# Altium integrated library National Semiconductor DAC.IntLib: 141 symbols (part 4 of 4)
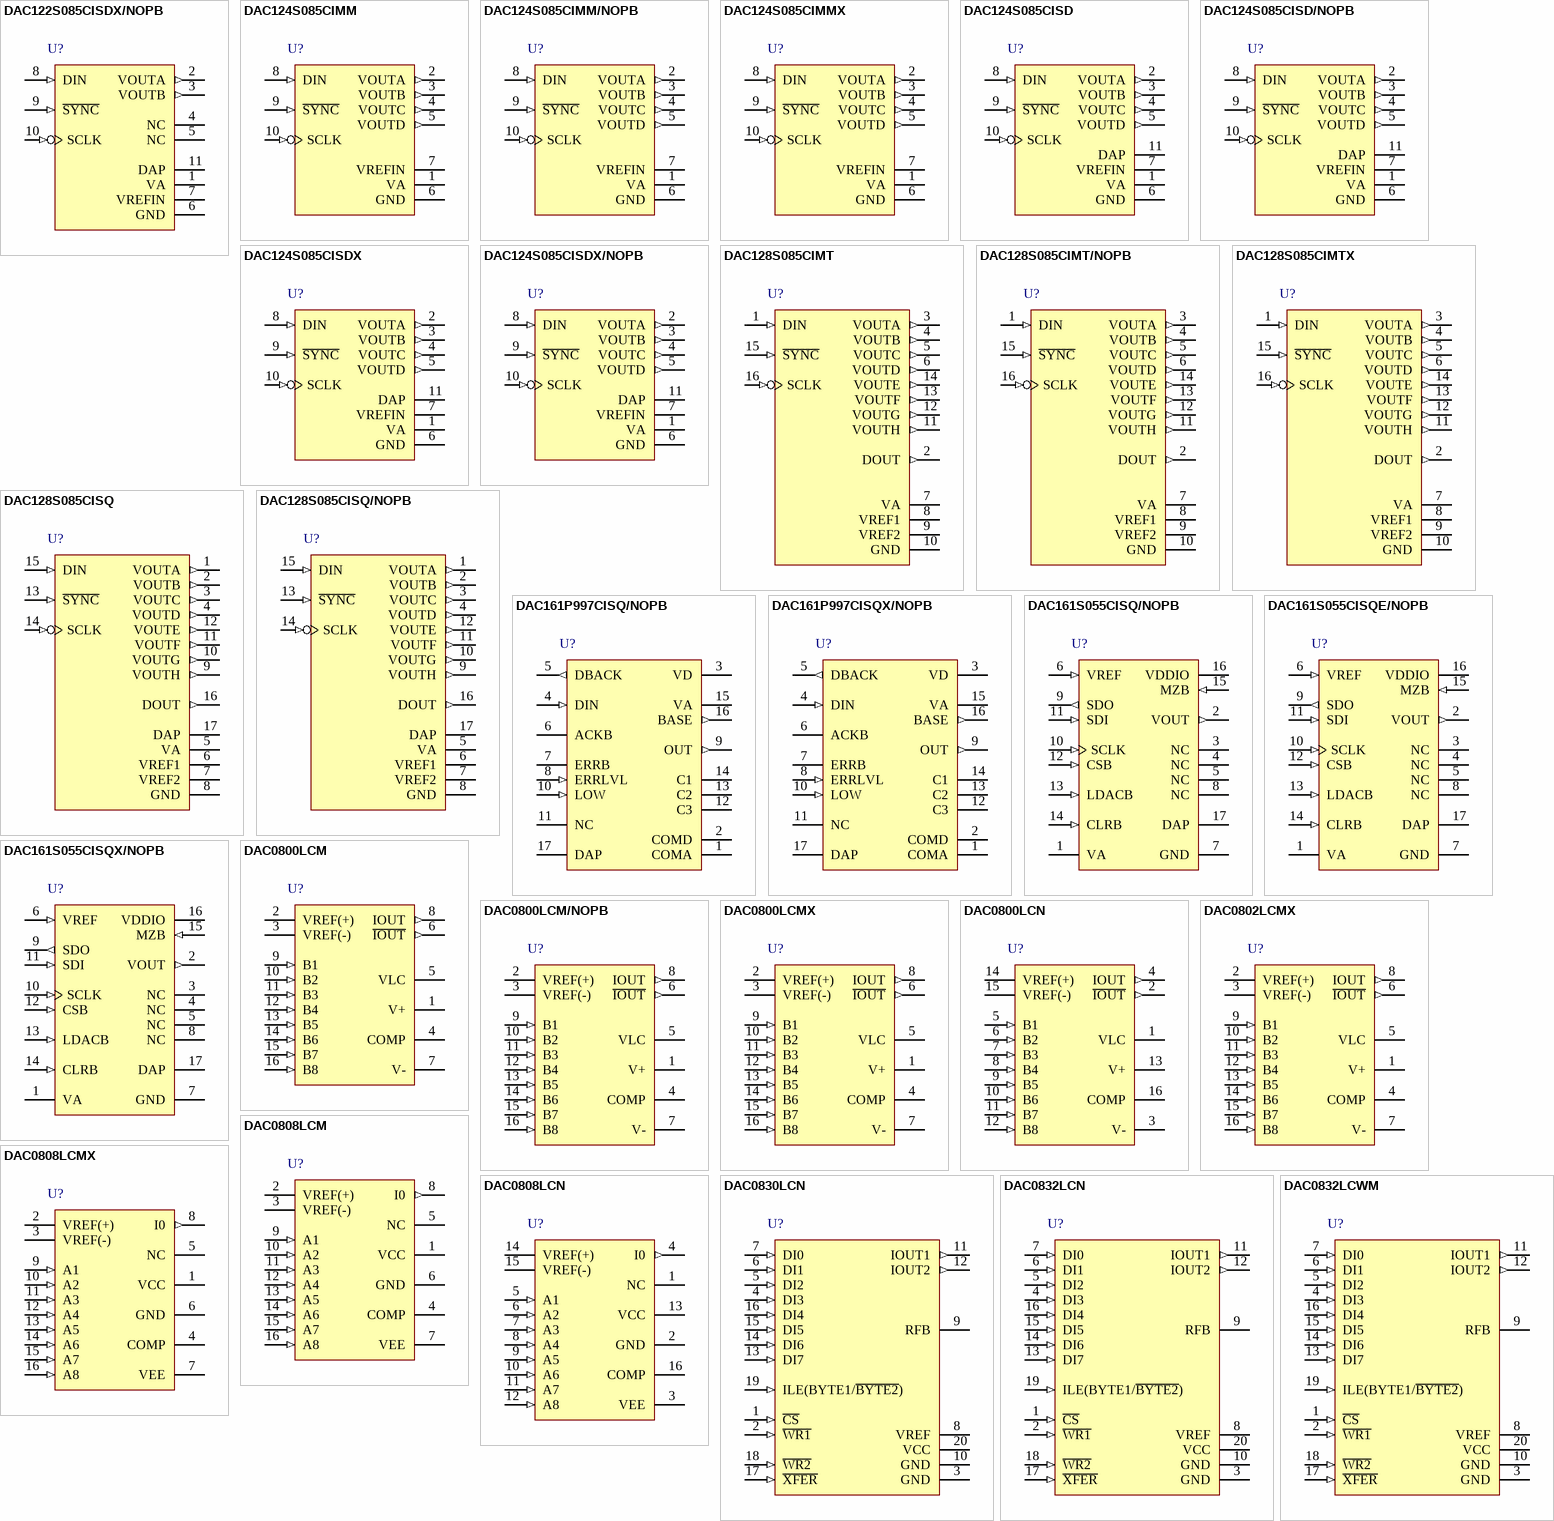
[diagram p7: symbols DAC122S085CISDX/NOPB to DAC0832LCWM]

## DAC124S085CIMMX
designator U?
12-Bit Micro Power QUAD Digital-to-Analog Converter with Rail-to-Rail Output, 10-pin Mini SOIC; PartNumber: DAC124S085CIMMX; Manufacturer: National Semiconductor; PackageTopMarking: ZXTT*X66C; PowerWise: Y; CompType: D/A Converter; DatasheetVersion: Nov-2008; PackageVersion: revB, Jul-2003; PackageReference: MUB10A; PackageDescription: Mini-SO, Molded, .118 x .118 x .034in Body, 10 Lead, .0197in Pitch; RoHS: N; PinCount: 10; High-Reliability: Y; Code_JEDEC: MO-187-BA; ComponentLink1Description: Manufacturer URL; ComponentLink1URL: http://www.national.com/; ComponentLink2Description: DAC124S085 Datasheet; ComponentLink2URL: http://www.national.com/ds/DA/DAC124S085.pdf; ComponentLink3Description: DAC124S085 Web Page; ComponentLink3URL: http://www.national.com/pf/DA/DAC124S085.html; ComponentLink4Description: MUB10A Package Page; ComponentLink4URL: http://www.national.com/packaging/folders/mub10a.html
footprint MUB10A_N (TSSOP, 10-Leads, Body 3x3mm, Pitch 0.5mm, IPC Medium Density)
footprint MUB10A_L (TSSOP, 10-Leads, Body 3x3mm, Pitch 0.5mm, IPC High Density)
footprint MUB10A_M (TSSOP, 10-Leads, Body 3x3mm, Pitch 0.5mm, IPC Low Density)
pins: 1 VA (power), 2 VOUTA (out), 3 VOUTB (out), 4 VOUTC (out), 5 VOUTD (out), 6 GND (power), 7 VREFIN (power), 8 DIN (in), 9 ~{SYNC} (in), 10 SCLK (in)

## DAC124S085CISD
designator U?
12-Bit Micro Power QUAD Digital-to-Analog Converter with Rail-to-Rail Output, 11-pin LLP; PartNumber: DAC124S085CISD; Manufacturer: National Semiconductor; PackageTopMarking: ZXYTT*X67C; PowerWise: Y; CompType: D/A Converter; DatasheetVersion: Nov-2008; PackageVersion: revA, Oct-2003; PackageReference: SDA10A; PackageDescription: LLP, Plastic, Dual, 3 x 3 x 0.8mm Body, 10 Lead, 0.5mm Pitch, No Pullback; RoHS: N; PinCount: 11; High-Reliability: Y; ComponentLink1Description: Manufacturer URL; ComponentLink1URL: http://www.national.com/; ComponentLink2Description: DAC124S085 Datasheet; ComponentLink2URL: http://www.national.com/ds/DA/DAC124S085.pdf; ComponentLink3Description: DAC124S085 Web Page; ComponentLink3URL: http://www.national.com/pf/DA/DAC124S085.html; ComponentLink4Description: SDA10A Package Page; ComponentLink4URL: http://www.national.com/packaging/folders/sda10a.html
footprint SDA10A (SON, 10-Leads, Body 3x3 mm, Pitch 0.5mm, NSC Recommended)
pins: 1 VA (power), 2 VOUTA (out), 3 VOUTB (out), 4 VOUTC (out), 5 VOUTD (out), 6 GND (power), 7 VREFIN (power), 8 DIN (in), 9 ~{SYNC} (in), 10 SCLK (in), 11 DAP (power)

## DAC124S085CISD/NOPB
designator U?
12-Bit Micro Power QUAD Digital-to-Analog Converter with Rail-to-Rail Output, 10-pin LLP, Pb-Free; PartNumber: DAC124S085CISD/NOPB; Manufacturer: National Semiconductor; PackageTopMarking: ZXYTT*X67C; PowerWise: Y; CompType: D/A Converter; DatasheetVersion: Nov-2008; PackageVersion: revA, Oct-2003; PackageReference: SDA10A; PackageDescription: LLP, Plastic, Dual, 3 x 3 x 0.8mm Body, 10 Lead, 0.5mm Pitch, No Pullback; RoHS: Y; PinCount: 10; High-Reliability: Y; ComponentLink1Description: Manufacturer URL; ComponentLink1URL: http://www.national.com/; ComponentLink2Description: DAC124S085 Datasheet; ComponentLink2URL: http://www.national.com/ds/DA/DAC124S085.pdf; ComponentLink3Description: DAC124S085 Web Page; ComponentLink3URL: http://www.national.com/pf/DA/DAC124S085.html; ComponentLink4Description: SDA10A Package Page; ComponentLink4URL: http://www.national.com/packaging/folders/sda10a.html
footprint SDA10A (SON, 10-Leads, Body 3x3 mm, Pitch 0.5mm, NSC Recommended)
pins: 1 VA (power), 2 VOUTA (out), 3 VOUTB (out), 4 VOUTC (out), 5 VOUTD (out), 6 GND (power), 7 VREFIN (power), 8 DIN (in), 9 ~{SYNC} (in), 10 SCLK (in), 11 DAP (power)

## DAC124S085CISDX
designator U?
12-Bit Micro Power QUAD Digital-to-Analog Converter with Rail-to-Rail Output, 10-pin LLP; PartNumber: DAC124S085CISDX; Manufacturer: National Semiconductor; PackageTopMarking: ZXYTT*X67C; PowerWise: Y; CompType: D/A Converter; DatasheetVersion: Nov-2008; PackageVersion: revA, Oct-2003; PackageReference: SDA10A; PackageDescription: LLP, Plastic, Dual, 3 x 3 x 0.8mm Body, 10 Lead, 0.5mm Pitch, No Pullback; RoHS: N; PinCount: 10; High-Reliability: Y; ComponentLink1Description: Manufacturer URL; ComponentLink1URL: http://www.national.com/; ComponentLink2Description: DAC124S085 Datasheet; ComponentLink2URL: http://www.national.com/ds/DA/DAC124S085.pdf; ComponentLink3Description: DAC124S085 Web Page; ComponentLink3URL: http://www.national.com/pf/DA/DAC124S085.html; ComponentLink4Description: SDA10A Package Page; ComponentLink4URL: http://www.national.com/packaging/folders/sda10a.html
footprint SDA10A (SON, 10-Leads, Body 3x3 mm, Pitch 0.5mm, NSC Recommended)
pins: 1 VA (power), 2 VOUTA (out), 3 VOUTB (out), 4 VOUTC (out), 5 VOUTD (out), 6 GND (power), 7 VREFIN (power), 8 DIN (in), 9 ~{SYNC} (in), 10 SCLK (in), 11 DAP (power)

## DAC124S085CISDX/NOPB
designator U?
12-Bit Micro Power QUAD Digital-to-Analog Converter with Rail-to-Rail Output, 10-pin LLP, Pb-Free; PartNumber: DAC124S085CISDX/NOPB; Manufacturer: National Semiconductor; PackageTopMarking: ZXYTT*X67C; PowerWise: Y; CompType: D/A Converter; DatasheetVersion: Nov-2008; PackageVersion: revA, Oct-2003; PackageReference: SDA10A; PackageDescription: LLP, Plastic, Dual, 3 x 3 x 0.8mm Body, 10 Lead, 0.5mm Pitch, No Pullback; RoHS: Y; PinCount: 10; High-Reliability: Y; ComponentLink1Description: Manufacturer URL; ComponentLink1URL: http://www.national.com/; ComponentLink2Description: DAC124S085 Datasheet; ComponentLink2URL: http://www.national.com/ds/DA/DAC124S085.pdf; ComponentLink3Description: DAC124S085 Web Page; ComponentLink3URL: http://www.national.com/pf/DA/DAC124S085.html; ComponentLink4Description: SDA10A Package Page; ComponentLink4URL: http://www.national.com/packaging/folders/sda10a.html
footprint SDA10A (SON, 10-Leads, Body 3x3 mm, Pitch 0.5mm, NSC Recommended)
pins: 1 VA (power), 2 VOUTA (out), 3 VOUTB (out), 4 VOUTC (out), 5 VOUTD (out), 6 GND (power), 7 VREFIN (power), 8 DIN (in), 9 ~{SYNC} (in), 10 SCLK (in), 11 DAP (power)

## DAC128S085CIMT
designator U?
12-Bit Micro Power OCTAL Digital-to-Analog Converter with Rail-to-Rail Outputs, 16-pin TSSOP; PartNumber: DAC128S085CIMT; Manufacturer: National Semiconductor; PackageTopMarking: ZXTT*X78C; PowerWise: Y; CompType: D/A Converter; DatasheetVersion: Mar-2009; PackageVersion: revD, Jun-2003; PackageReference: MTC16; PackageDescription: Molded TSSOP, Jedec, 5 x 4.4 x 0.9mm Body, 16 Lead, 0.65mm Pitch; RoHS: N; PinCount: 16; High-Reliability: Y; Code_JEDEC: MO-153-AB; ComponentLink1Description: Manufacturer URL; ComponentLink1URL: http://www.national.com/; ComponentLink2Description: DAC128S085 Datasheet; ComponentLink2URL: http://www.national.com/ds/DA/DAC128S085.pdf; ComponentLink3Description: DAC128S085 Web Page; ComponentLink3URL: http://www.national.com/pf/DA/DAC128S085.html; ComponentLink4Description: MTC16 Package Page; ComponentLink4URL: http://www.national.com/packaging/folders/mtc16.html
footprint MTC16_N (TSOP, 16-Leads, Body 5x4.4mm, Pitch 0.65mm, IPC Medium Density)
footprint MTC16_L (TSOP, 16-Leads, Body 5x4.4mm, Pitch 0.65mm, IPC High Density)
footprint MTC16_M (TSOP, 16-Leads, Body 5x4.4mm, Pitch 0.65mm, IPC Low Density)
pins: 1 DIN (in), 2 DOUT (out), 3 VOUTA (out), 4 VOUTB (out), 5 VOUTC (out), 6 VOUTD (out), 7 VA (power), 8 VREF1 (power), 9 VREF2 (power), 10 GND (power), 11 VOUTH (out), 12 VOUTG (out), 13 VOUTF (out), 14 VOUTE (out), 15 ~{SYNC} (in), 16 SCLK (in)

## DAC128S085CIMT/NOPB
designator U?
12-Bit Micro Power OCTAL Digital-to-Analog Converter with Rail-to-Rail Outputs, 16-pin TSSOP, Pb-Free; PartNumber: DAC128S085CIMT/NOPB; Manufacturer: National Semiconductor; PackageTopMarking: ZXTT*X78C; PowerWise: Y; CompType: D/A Converter; DatasheetVersion: Mar-2009; PackageVersion: revD, Jun-2003; PackageReference: MTC16; PackageDescription: Molded TSSOP, Jedec, 5 x 4.4 x 0.9mm Body, 16 Lead, 0.65mm Pitch; RoHS: Y; PinCount: 16; High-Reliability: Y; Code_JEDEC: MO-153-AB; ComponentLink1Description: Manufacturer URL; ComponentLink1URL: http://www.national.com/; ComponentLink2Description: DAC128S085 Datasheet; ComponentLink2URL: http://www.national.com/ds/DA/DAC128S085.pdf; ComponentLink3Description: DAC128S085 Web Page; ComponentLink3URL: http://www.national.com/pf/DA/DAC128S085.html; ComponentLink4Description: MTC16 Package Page; ComponentLink4URL: http://www.national.com/packaging/folders/mtc16.html
footprint MTC16_N (TSOP, 16-Leads, Body 5x4.4mm, Pitch 0.65mm, IPC Medium Density)
footprint MTC16_L (TSOP, 16-Leads, Body 5x4.4mm, Pitch 0.65mm, IPC High Density)
footprint MTC16_M (TSOP, 16-Leads, Body 5x4.4mm, Pitch 0.65mm, IPC Low Density)
pins: 1 DIN (in), 2 DOUT (out), 3 VOUTA (out), 4 VOUTB (out), 5 VOUTC (out), 6 VOUTD (out), 7 VA (power), 8 VREF1 (power), 9 VREF2 (power), 10 GND (power), 11 VOUTH (out), 12 VOUTG (out), 13 VOUTF (out), 14 VOUTE (out), 15 ~{SYNC} (in), 16 SCLK (in)

## DAC128S085CIMTX
designator U?
12-Bit Micro Power OCTAL Digital-to-Analog Converter with Rail-to-Rail Outputs, 16-pin TSSOP; PartNumber: DAC128S085CIMTX; Manufacturer: National Semiconductor; PackageTopMarking: ZXTT*X78C; PowerWise: Y; CompType: D/A Converter; DatasheetVersion: Mar-2009; PackageVersion: revD, Jun-2003; PackageReference: MTC16; PackageDescription: Molded TSSOP, Jedec, 5 x 4.4 x 0.9mm Body, 16 Lead, 0.65mm Pitch; RoHS: N; PinCount: 16; High-Reliability: Y; Code_JEDEC: MO-153-AB; ComponentLink1Description: Manufacturer URL; ComponentLink1URL: http://www.national.com/; ComponentLink2Description: DAC128S085 Datasheet; ComponentLink2URL: http://www.national.com/ds/DA/DAC128S085.pdf; ComponentLink3Description: DAC128S085 Web Page; ComponentLink3URL: http://www.national.com/pf/DA/DAC128S085.html; ComponentLink4Description: MTC16 Package Page; ComponentLink4URL: http://www.national.com/packaging/folders/mtc16.html
footprint MTC16_N (TSOP, 16-Leads, Body 5x4.4mm, Pitch 0.65mm, IPC Medium Density)
footprint MTC16_L (TSOP, 16-Leads, Body 5x4.4mm, Pitch 0.65mm, IPC High Density)
footprint MTC16_M (TSOP, 16-Leads, Body 5x4.4mm, Pitch 0.65mm, IPC Low Density)
pins: 1 DIN (in), 2 DOUT (out), 3 VOUTA (out), 4 VOUTB (out), 5 VOUTC (out), 6 VOUTD (out), 7 VA (power), 8 VREF1 (power), 9 VREF2 (power), 10 GND (power), 11 VOUTH (out), 12 VOUTG (out), 13 VOUTF (out), 14 VOUTE (out), 15 ~{SYNC} (in), 16 SCLK (in)

## DAC128S085CISQ
designator U?
12-Bit Micro Power OCTAL Digital-to-Analog Converter with Rail-to-Rail Outputs, 17-pin LLP; PartNumber: DAC128S085CISQ; Manufacturer: National Semiconductor; PackageTopMarking: NS*UZXYTT*128S085; PowerWise: Y; CompType: D/A Converter; DatasheetVersion: Mar-2009; PackageVersion: revA, Oct-2003; PackageReference: SQA16A; PackageDescription: LLP, Plastic, Quad, 4 x 4 x 0.8mm Body, 16 Lead, 0.5mm Pitch, No Pullback; RoHS: N; PinCount: 17; High-Reliability: Y; ComponentLink1Description: Manufacturer URL; ComponentLink1URL: http://www.national.com/; ComponentLink2Description: DAC128S085 Datasheet; ComponentLink2URL: http://www.national.com/ds/DA/DAC128S085.pdf; ComponentLink3Description: DAC128S085 Web Page; ComponentLink3URL: http://www.national.com/pf/DA/DAC128S085.html; ComponentLink4Description: SQA16A Package Page; ComponentLink4URL: http://www.national.com/packaging/folders/sqa16a.html
footprint SQA16A (QFN, 16-Leads, Body 4x4mm, Pitch 0.5mm, Thermal Pad 2.7x2.7mm, NSC Recommended)
pins: 1 VOUTA (out), 2 VOUTB (out), 3 VOUTC (out), 4 VOUTD (out), 5 VA (power), 6 VREF1 (power), 7 VREF2 (power), 8 GND (power), 9 VOUTH (out), 10 VOUTG (out), 11 VOUTF (out), 12 VOUTE (out), 13 ~{SYNC} (in), 14 SCLK (in), 15 DIN (in), 16 DOUT (out), 17 DAP (power)

## DAC128S085CISQ/NOPB
designator U?
12-Bit Micro Power OCTAL Digital-to-Analog Converter with Rail-to-Rail Outputs, 16-pin LLP, Pb-Free; PartNumber: DAC128S085CISQ/NOPB; Manufacturer: National Semiconductor; PackageTopMarking: NS*UZXYTT*128S085; PowerWise: Y; CompType: D/A Converter; DatasheetVersion: Mar-2009; PackageVersion: revA, Oct-2003; PackageReference: SQA16A; PackageDescription: LLP, Plastic, Quad, 4 x 4 x 0.8mm Body, 16 Lead, 0.5mm Pitch, No Pullback; RoHS: Y; PinCount: 16; High-Reliability: Y; ComponentLink1Description: Manufacturer URL; ComponentLink1URL: http://www.national.com/; ComponentLink2Description: DAC128S085 Datasheet; ComponentLink2URL: http://www.national.com/ds/DA/DAC128S085.pdf; ComponentLink3Description: DAC128S085 Web Page; ComponentLink3URL: http://www.national.com/pf/DA/DAC128S085.html; ComponentLink4Description: SQA16A Package Page; ComponentLink4URL: http://www.national.com/packaging/folders/sqa16a.html
footprint SQA16A (QFN, 16-Leads, Body 4x4mm, Pitch 0.5mm, Thermal Pad 2.7x2.7mm, NSC Recommended)
pins: 1 VOUTA (out), 2 VOUTB (out), 3 VOUTC (out), 4 VOUTD (out), 5 VA (power), 6 VREF1 (power), 7 VREF2 (power), 8 GND (power), 9 VOUTH (out), 10 VOUTG (out), 11 VOUTF (out), 12 VOUTE (out), 13 ~{SYNC} (in), 14 SCLK (in), 15 DIN (in), 16 DOUT (out), 17 DAP (power)

## DAC161P997CISQ/NOPB
designator U?
Single-Wire 16-bit DAC for 4-20mA Loops, 16-pin LLP, 1000 Reel; PartNumber: DAC161P997CISQ/NOPB; Manufacturer: National Semiconductor; PackageTopMarking: NS*UZXYTT*161P997; PowerWise: N; CompType: D/A Converter; High-Reliability: Y; DatasheetVersion: Aug-2011; PackageVersion: revA, Oct-2003; PackageReference: SQA16A; PackageDescription: LLP, Plastic, Quad, 4 x 4 x 0.8mm Body, 16 Lead, 0.5mm Pitch, No Pullback; RoHS: Y; PinCount: 16; ComponentLink1Description: Manufacturer URL; ComponentLink1URL: http://www.national.com/; ComponentLink2Description: DAC161P997 Datasheet; ComponentLink2URL: http://www.national.com/ds/DA/DAC161P997.pdf; ComponentLink3Description: DAC161P997 Web Page; ComponentLink3URL: http://www.national.com/pf/DA/DAC161P997.html; ComponentLink4Description: SQA16A Package Page; ComponentLink4URL: http://www.national.com/packaging/folders/sqa16a.html
footprint SQA16A (QFN, 16-Leads, Body 4x4mm, Pitch 0.5mm, Thermal Pad 2.7x2.7mm, NSC Recommended)
pins: 1 COMA (power), 2 COMD (power), 3 VD (power), 4 DIN (in), 5 DBACK (out), 6 ACKB (oc), 7 ERRB (oc), 8 ERRLVL (in), 9 OUT (out), 10 LOW (in), 11 NC, 12 C3, 13 C2, 14 C1, 15 VA (power), 16 BASE (out), 17 DAP (power)

## DAC161P997CISQX/NOPB
designator U?
Single-Wire 16-bit DAC for 4-20mA Loops, 16-pin LLP, 4500 Reel; PartNumber: DAC161P997CISQX/NOPB; Manufacturer: National Semiconductor; PackageTopMarking: NS*UZXYTT*161P997; PowerWise: N; CompType: D/A Converter; High-Reliability: Y; DatasheetVersion: Aug-2011; PackageVersion: revA, Oct-2003; PackageReference: SQA16A; PackageDescription: LLP, Plastic, Quad, 4 x 4 x 0.8mm Body, 16 Lead, 0.5mm Pitch, No Pullback; RoHS: Y; PinCount: 16; ComponentLink1Description: Manufacturer URL; ComponentLink1URL: http://www.national.com/; ComponentLink2Description: DAC161P997 Datasheet; ComponentLink2URL: http://www.national.com/ds/DA/DAC161P997.pdf; ComponentLink3Description: DAC161P997 Web Page; ComponentLink3URL: http://www.national.com/pf/DA/DAC161P997.html; ComponentLink4Description: SQA16A Package Page; ComponentLink4URL: http://www.national.com/packaging/folders/sqa16a.html
footprint SQA16A (QFN, 16-Leads, Body 4x4mm, Pitch 0.5mm, Thermal Pad 2.7x2.7mm, NSC Recommended)
pins: 1 COMA (power), 2 COMD (power), 3 VD (power), 4 DIN (in), 5 DBACK (out), 6 ACKB (oc), 7 ERRB (oc), 8 ERRLVL (in), 9 OUT (out), 10 LOW (in), 11 NC, 12 C3, 13 C2, 14 C1, 15 VA (power), 16 BASE (out), 17 DAP (power)

## DAC161S055CISQ/NOPB
designator U?
Precision 16-Bit, Buffered Voltage-Output DAC, 16-pin LLP, 1000 Reel; PartNumber: DAC161S055CISQ/NOPB; Manufacturer: National Semiconductor; PackageTopMarking: NS*UZXYTT*161S055; PowerWise: Y; CompType: D/A Converter; DatasheetVersion: Nov-2010; PackageVersion: revA, Oct-2003; PackageReference: SQA16A; PackageDescription: LLP, Plastic, Quad, 4 x 4 x 0.8mm Body, 16 Lead, 0.5mm Pitch, No Pullback; RoHS: Y; PinCount: 16; High-Reliability: Y; ComponentLink1Description: Manufacturer URL; ComponentLink1URL: http://www.national.com/; ComponentLink2Description: DAC161S055 Datasheet; ComponentLink2URL: http://www.national.com/ds/DA/DAC161S055.pdf; ComponentLink3Description: DAC161S055 Web Page; ComponentLink3URL: http://www.national.com/pf/DA/DAC161S055.html; ComponentLink4Description: SQA16A Package Page; ComponentLink4URL: http://www.national.com/packaging/folders/sqa16a.html
footprint SQA16A (QFN, 16-Leads, Body 4x4mm, Pitch 0.5mm, Thermal Pad 2.7x2.7mm, NSC Recommended)
pins: 1 VA (power), 2 VOUT (out), 3 NC, 4 NC, 5 NC, 6 VREF (in), 7 GND (power), 8 NC, 9 SDO (out), 10 SCLK (in), 11 SDI (in), 12 CSB (in), 13 LDACB (in), 14 CLRB (in), 15 MZB (in), 16 VDDIO (power), 17 DAP (power)

## DAC161S055CISQE/NOPB
designator U?
Precision 16-Bit, Buffered Voltage-Output DAC, 16-pin LLP, 250 Reel; PartNumber: DAC161S055CISQE/NOPB; Manufacturer: National Semiconductor; PackageTopMarking: NS*UZXYTT*161S055; PowerWise: N; CompType: D/A Converter; High-Reliability: Y; DatasheetVersion: Nov-2010; PackageVersion: revA, Oct-2003; PackageReference: SQA16A; PackageDescription: LLP, Plastic, Quad, 4 x 4 x 0.8mm Body, 16 Lead, 0.5mm Pitch, No Pullback; RoHS: Y; PinCount: 16; ComponentLink1Description: Manufacturer URL; ComponentLink1URL: http://www.national.com/; ComponentLink2Description: DAC161S055 Datasheet; ComponentLink2URL: http://www.national.com/ds/DA/DAC161S055.pdf; ComponentLink3Description: DAC161S055 Web Page; ComponentLink3URL: http://www.national.com/pf/DA/DAC161S055.html; ComponentLink4Description: SQA16A Package Page; ComponentLink4URL: http://www.national.com/packaging/folders/sqa16a.html
footprint SQA16A (QFN, 16-Leads, Body 4x4mm, Pitch 0.5mm, Thermal Pad 2.7x2.7mm, NSC Recommended)
pins: 1 VA (power), 2 VOUT (out), 3 NC, 4 NC, 5 NC, 6 VREF (in), 7 GND (power), 8 NC, 9 SDO (out), 10 SCLK (in), 11 SDI (in), 12 CSB (in), 13 LDACB (in), 14 CLRB (in), 15 MZB (in), 16 VDDIO (power), 17 DAP (power)

## DAC161S055CISQX/NOPB
designator U?
Precision 16-Bit, Buffered Voltage-Output DAC, 16-pin LLP, 4500 Reel; PartNumber: DAC161S055CISQX/NOPB; Manufacturer: National Semiconductor; PackageTopMarking: NS*UZXYTT*161S055; PowerWise: Y; CompType: D/A Converter; DatasheetVersion: Nov-2010; PackageVersion: revA, Oct-2003; PackageReference: SQA16A; PackageDescription: LLP, Plastic, Quad, 4 x 4 x 0.8mm Body, 16 Lead, 0.5mm Pitch, No Pullback; RoHS: Y; PinCount: 16; High-Reliability: Y; ComponentLink1Description: Manufacturer URL; ComponentLink1URL: http://www.national.com/; ComponentLink2Description: DAC161S055 Datasheet; ComponentLink2URL: http://www.national.com/ds/DA/DAC161S055.pdf; ComponentLink3Description: DAC161S055 Web Page; ComponentLink3URL: http://www.national.com/pf/DA/DAC161S055.html; ComponentLink4Description: SQA16A Package Page; ComponentLink4URL: http://www.national.com/packaging/folders/sqa16a.html
footprint SQA16A (QFN, 16-Leads, Body 4x4mm, Pitch 0.5mm, Thermal Pad 2.7x2.7mm, NSC Recommended)
pins: 1 VA (power), 2 VOUT (out), 3 NC, 4 NC, 5 NC, 6 VREF (in), 7 GND (power), 8 NC, 9 SDO (out), 10 SCLK (in), 11 SDI (in), 12 CSB (in), 13 LDACB (in), 14 CLRB (in), 15 MZB (in), 16 VDDIO (power), 17 DAP (power)

## DAC0800LCM
designator U?
8-Bit D/A Converter, 16-pin Narrow SOIC; PartNumber: DAC0800LCM; Manufacturer: National Semiconductor; PackageTopMarking: NSUZXYTTE#*DAC0800LCM; PowerWise: N; High-Reliability: Y; DatasheetVersion: Sep-2006; PackageVersion: revJ, Aug-1995; PackageReference: M16A; PackageDescription: Molded Package, SO, .150in Wide, 16 Lead; RoHS: N; PinCount: 16; CompType: D/A Converter; Code_JEDEC: MS-012-AC; Code_IPC: SOIC127P600-16; ComponentLink1Description: Manufacturer URL; ComponentLink1URL: http://www.national.com/; ComponentLink2Description: DAC0800 Datasheet; ComponentLink2URL: http://www.national.com/ds/DA/DAC0800.pdf; ComponentLink3Description: DAC0800 Web Page; ComponentLink3URL: http://www.national.com/pf/DA/DAC0800.html; ComponentLink4Description: M16A Package Page; ComponentLink4URL: http://www.national.com/packaging/folders/m16a.html
footprint M16A_N (SOIC, 16-Leads, Body 9.9x3.9mm, Pitch 1.27mm, IPC Medium Density)
footprint M16A_L (SOIC, 16-Leads, Body 9.9x3.9mm, Pitch 1.27mm, IPC High Density)
footprint M16A_M (SOIC, 16-Leads, Body 9.9x3.9mm, Pitch 1.27mm, IPC Low Density)
pins: 1 V+ (power), 2 VREF(+) (power), 3 VREF(-) (power), 4 COMP, 5 VLC, 6 ~{IOUT} (out), 7 V- (power), 8 IOUT (out), 9 B1 (in), 10 B2 (in), 11 B3 (in), 12 B4 (in), 13 B5 (in), 14 B6 (in), 15 B7 (in), 16 B8 (in)

## DAC0800LCM/NOPB
designator U?
8-Bit D/A Converter, 16-pin Narrow SOIC, Pb-Free; PartNumber: DAC0800LCM/NOPB; Manufacturer: National Semiconductor; PackageTopMarking: NSUZXYTTE#*DAC0800LCM; PowerWise: N; High-Reliability: Y; DatasheetVersion: Sep-2006; PackageVersion: revJ, Aug-1995; PackageReference: M16A; PackageDescription: Molded Package, SO, .150in Wide, 16 Lead; RoHS: Y; PinCount: 16; CompType: D/A Converter; Code_JEDEC: MS-012-AC; Code_IPC: SOIC127P600-16; ComponentLink1Description: Manufacturer URL; ComponentLink1URL: http://www.national.com/; ComponentLink2Description: DAC0800 Datasheet; ComponentLink2URL: http://www.national.com/ds/DA/DAC0800.pdf; ComponentLink3Description: DAC0800 Web Page; ComponentLink3URL: http://www.national.com/pf/DA/DAC0800.html; ComponentLink4Description: M16A Package Page; ComponentLink4URL: http://www.national.com/packaging/folders/m16a.html
footprint M16A_N (SOIC, 16-Leads, Body 9.9x3.9mm, Pitch 1.27mm, IPC Medium Density)
footprint M16A_L (SOIC, 16-Leads, Body 9.9x3.9mm, Pitch 1.27mm, IPC High Density)
footprint M16A_M (SOIC, 16-Leads, Body 9.9x3.9mm, Pitch 1.27mm, IPC Low Density)
pins: 1 V+ (power), 2 VREF(+) (power), 3 VREF(-) (power), 4 COMP, 5 VLC, 6 ~{IOUT} (out), 7 V- (power), 8 IOUT (out), 9 B1 (in), 10 B2 (in), 11 B3 (in), 12 B4 (in), 13 B5 (in), 14 B6 (in), 15 B7 (in), 16 B8 (in)

## DAC0800LCMX
designator U?
8-Bit D/A Converter, 16-pin Narrow SOIC; PartNumber: DAC0800LCMX; Manufacturer: National Semiconductor; PackageTopMarking: NSUZXYTTE#*DAC0800LCM; PowerWise: N; High-Reliability: Y; DatasheetVersion: Sep-2006; PackageVersion: revJ, Aug-1995; PackageReference: M16A; PackageDescription: Molded Package, SO, .150in Wide, 16 Lead; RoHS: N; PinCount: 16; CompType: D/A Converter; Code_JEDEC: MS-012-AC; Code_IPC: SOIC127P600-16; ComponentLink1Description: Manufacturer URL; ComponentLink1URL: http://www.national.com/; ComponentLink2Description: DAC0800 Datasheet; ComponentLink2URL: http://www.national.com/ds/DA/DAC0800.pdf; ComponentLink3Description: DAC0800 Web Page; ComponentLink3URL: http://www.national.com/pf/DA/DAC0800.html; ComponentLink4Description: M16A Package Page; ComponentLink4URL: http://www.national.com/packaging/folders/m16a.html
footprint M16A_N (SOIC, 16-Leads, Body 9.9x3.9mm, Pitch 1.27mm, IPC Medium Density)
footprint M16A_L (SOIC, 16-Leads, Body 9.9x3.9mm, Pitch 1.27mm, IPC High Density)
footprint M16A_M (SOIC, 16-Leads, Body 9.9x3.9mm, Pitch 1.27mm, IPC Low Density)
pins: 1 V+ (power), 2 VREF(+) (power), 3 VREF(-) (power), 4 COMP, 5 VLC, 6 ~{IOUT} (out), 7 V- (power), 8 IOUT (out), 9 B1 (in), 10 B2 (in), 11 B3 (in), 12 B4 (in), 13 B5 (in), 14 B6 (in), 15 B7 (in), 16 B8 (in)

## DAC0800LCN
designator U?
8-Bit D/A Converter, 16-pin MDIP; PartNumber: DAC0800LCN; Manufacturer: National Semiconductor; PackageTopMarking: NSUZXYYTTE#*DAC0800LCN*DAC-08EP; PowerWise: N; High-Reliability: Y; DatasheetVersion: Sep-2006; PackageVersion: revG, May-2006; PackageReference: N16E; PackageDescription: MDIP, .750 x .250 x .130in, 16 Lead, .100in Pitch; RoHS: N; PinCount: 16; CompType: D/A Converter; Code_JEDEC: MS-001-BB; ComponentLink1Description: Manufacturer URL; ComponentLink1URL: http://www.national.com/; ComponentLink2Description: DAC0800 Datasheet; ComponentLink2URL: http://www.national.com/ds/DA/DAC0800.pdf; ComponentLink3Description: DAC0800 Web Page; ComponentLink3URL: http://www.national.com/pf/DA/DAC0800.html; ComponentLink4Description: N16E Package Page; ComponentLink4URL: http://www.national.com/packaging/folders/n16e.html
footprint N16E (DIP, 16-Leads, Row Spacing 7.62mm, Pitch 2.54mm, Body 19.3x6.35mm)
pins: 1 VLC, 2 ~{IOUT} (out), 3 V- (power), 4 IOUT (out), 5 B1 (in), 6 B2 (in), 7 B3 (in), 8 B4 (in), 9 B5 (in), 10 B6 (in), 11 B7 (in), 12 B8 (in), 13 V+ (power), 14 VREF(+) (power), 15 VREF(-) (power), 16 COMP

## DAC0802LCMX
designator U?
8-Bit D/A Converter, 16-pin Narrow SOIC; PartNumber: DAC0802LCMX; Manufacturer: National Semiconductor; PackageTopMarking: NSUZXYTT*DAC0802LCM; PowerWise: N; High-Reliability: Y; DatasheetVersion: Sep-2006; PackageVersion: revJ, Aug-1995; PackageReference: M16A; PackageDescription: Molded Package, SO, .150in Wide, 16 Lead; RoHS: N; PinCount: 16; CompType: D/A Converter; Code_JEDEC: MS-012-AC; Code_IPC: SOIC127P600-16; ComponentLink1Description: Manufacturer URL; ComponentLink1URL: http://www.national.com/; ComponentLink2Description: DAC0802 Datasheet; ComponentLink2URL: http://www.national.com/ds/DA/DAC0802.pdf; ComponentLink3Description: DAC0802 Web Page; ComponentLink3URL: http://www.national.com/pf/DA/DAC0802.html; ComponentLink4Description: M16A Package Page; ComponentLink4URL: http://www.national.com/packaging/folders/m16a.html
footprint M16A_N (SOIC, 16-Leads, Body 9.9x3.9mm, Pitch 1.27mm, IPC Medium Density)
footprint M16A_L (SOIC, 16-Leads, Body 9.9x3.9mm, Pitch 1.27mm, IPC High Density)
footprint M16A_M (SOIC, 16-Leads, Body 9.9x3.9mm, Pitch 1.27mm, IPC Low Density)
pins: 1 V+ (power), 2 VREF(+) (power), 3 VREF(-) (power), 4 COMP, 5 VLC, 6 ~{IOUT} (out), 7 V- (power), 8 IOUT (out), 9 B1 (in), 10 B2 (in), 11 B3 (in), 12 B4 (in), 13 B5 (in), 14 B6 (in), 15 B7 (in), 16 B8 (in)

## DAC0808LCM
designator U?
8-Bit D/A Converter, 16-pin Narrow SOIC; PartNumber: DAC0808LCM; Manufacturer: National Semiconductor; PackageTopMarking: NSUZXYTTE#*DAC0808LCM; PowerWise: N; High-Reliability: Y; DatasheetVersion: May-1999; PackageVersion: revJ, Aug-1995; PackageReference: M16A; PackageDescription: Molded Package, SO, .150in Wide, 16 Lead; RoHS: N; PinCount: 16; CompType: D/A Converter; Code_JEDEC: MS-012-AC; Code_IPC: SOIC127P600-16; ComponentLink1Description: Manufacturer URL; ComponentLink1URL: http://www.national.com/; ComponentLink2Description: DAC0808 Datasheet; ComponentLink2URL: http://www.national.com/ds/DA/DAC0808.pdf; ComponentLink3Description: DAC0808 Web Page; ComponentLink3URL: http://www.national.com/pf/DA/DAC0808.html; ComponentLink4Description: M16A Package Page; ComponentLink4URL: http://www.national.com/packaging/folders/m16a.html
footprint M16A_N (SOIC, 16-Leads, Body 9.9x3.9mm, Pitch 1.27mm, IPC Medium Density)
footprint M16A_L (SOIC, 16-Leads, Body 9.9x3.9mm, Pitch 1.27mm, IPC High Density)
footprint M16A_M (SOIC, 16-Leads, Body 9.9x3.9mm, Pitch 1.27mm, IPC Low Density)
pins: 1 VCC (power), 2 VREF(+) (power), 3 VREF(-) (power), 4 COMP, 5 NC, 6 GND (power), 7 VEE (power), 8 I0 (out), 9 A1 (in), 10 A2 (in), 11 A3 (in), 12 A4 (in), 13 A5 (in), 14 A6 (in), 15 A7 (in), 16 A8 (in)

## DAC0808LCMX
designator U?
8-Bit D/A Converter, 16-pin Narrow SOIC; PartNumber: DAC0808LCMX; Manufacturer: National Semiconductor; PackageTopMarking: NSUZXYTTE#*DAC0808LCM; PowerWise: N; High-Reliability: Y; DatasheetVersion: May-1999; PackageVersion: revJ, Aug-1995; PackageReference: M16A; PackageDescription: Molded Package, SO, .150in Wide, 16 Lead; RoHS: N; PinCount: 16; CompType: D/A Converter; Code_JEDEC: MS-012-AC; Code_IPC: SOIC127P600-16; ComponentLink1Description: Manufacturer URL; ComponentLink1URL: http://www.national.com/; ComponentLink2Description: DAC0808 Datasheet; ComponentLink2URL: http://www.national.com/ds/DA/DAC0808.pdf; ComponentLink3Description: DAC0808 Web Page; ComponentLink3URL: http://www.national.com/pf/DA/DAC0808.html; ComponentLink4Description: M16A Package Page; ComponentLink4URL: http://www.national.com/packaging/folders/m16a.html
footprint M16A_N (SOIC, 16-Leads, Body 9.9x3.9mm, Pitch 1.27mm, IPC Medium Density)
footprint M16A_L (SOIC, 16-Leads, Body 9.9x3.9mm, Pitch 1.27mm, IPC High Density)
footprint M16A_M (SOIC, 16-Leads, Body 9.9x3.9mm, Pitch 1.27mm, IPC Low Density)
pins: 1 VCC (power), 2 VREF(+) (power), 3 VREF(-) (power), 4 COMP, 5 NC, 6 GND (power), 7 VEE (power), 8 I0 (out), 9 A1 (in), 10 A2 (in), 11 A3 (in), 12 A4 (in), 13 A5 (in), 14 A6 (in), 15 A7 (in), 16 A8 (in)

## DAC0808LCN
designator U?
8-Bit D/A Converter, 16-pin MDIP; PartNumber: DAC0808LCN; Manufacturer: National Semiconductor; PackageTopMarking: NSUZXYYTTE#*DAC0808LCN*MC1408P8; PowerWise: N; High-Reliability: Y; DatasheetVersion: May-1999; PackageVersion: revG, May-2006; PackageReference: N16E; PackageDescription: MDIP, .750 x .250 x .130in, 16 Lead, .100in Pitch; RoHS: N; PinCount: 16; CompType: D/A Converter; Code_JEDEC: MS-001-BB; ComponentLink1Description: Manufacturer URL; ComponentLink1URL: http://www.national.com/; ComponentLink2Description: DAC0808 Datasheet; ComponentLink2URL: http://www.national.com/ds/DA/DAC0808.pdf; ComponentLink3Description: DAC0808 Web Page; ComponentLink3URL: http://www.national.com/pf/DA/DAC0808.html; ComponentLink4Description: N16E Package Page; ComponentLink4URL: http://www.national.com/packaging/folders/n16e.html
footprint N16E (DIP, 16-Leads, Row Spacing 7.62mm, Pitch 2.54mm, Body 19.3x6.35mm)
pins: 1 NC, 2 GND (power), 3 VEE (power), 4 I0 (out), 5 A1 (in), 6 A2 (in), 7 A3 (in), 8 A4 (in), 9 A5 (in), 10 A6 (in), 11 A7 (in), 12 A8 (in), 13 VCC (power), 14 VREF(+) (power), 15 VREF(-) (power), 16 COMP

## DAC0830LCN
designator U?
8-bit Microprocessor Compatible, Double-Buffered D/A Converter, 20-pin MDIP; PartNumber: DAC0830LCN; Manufacturer: National Semiconductor; PackageTopMarking: NSUZXYYTTE#*DAC0830LCN; PowerWise: N; High-Reliability: Y; DatasheetVersion: Mar-2002; PackageVersion: revG, Nov-1984; PackageReference: N20A; PackageDescription: Molded Dip (N) 20 Lead; RoHS: N; PinCount: 20; CompType: D/A Converter; Code_JEDEC: MS-001-AD; ComponentLink1Description: Manufacturer URL; ComponentLink1URL: http://www.national.com/; ComponentLink2Description: DAC0830 Datasheet; ComponentLink2URL: http://www.national.com/ds/DA/DAC0830.pdf; ComponentLink3Description: DAC0830 Web Page; ComponentLink3URL: http://www.national.com/pf/DA/DAC0830.html; ComponentLink4Description: N20A Package Page; ComponentLink4URL: http://www.national.com/packaging/folders/n20a.html
footprint N20A (DIP, 20-Leads, Row Spacing 7.62mm, Pitch 2.54mm, Body 26.07x6.6mm)
pins: 1 ~{CS} (in), 2 ~{WR1} (in), 3 GND (power), 4 DI3 (in), 5 DI2 (in), 6 DI1 (in), 7 DI0 (in), 8 VREF (power), 9 RFB, 10 GND (power), 11 IOUT1 (out), 12 IOUT2 (out), 13 DI7 (in), 14 DI6 (in), 15 DI5 (in), 16 DI4 (in), 17 ~{XFER} (in), 18 ~{WR2} (in), 19 ILE(BYTE1/~{BYTE2}) (in), 20 VCC (power)

## DAC0832LCN
designator U?
8-bit Microprocessor Compatible, Double-Buffered D/A Converter, 20-pin MDIP; PartNumber: DAC0832LCN; Manufacturer: National Semiconductor; PackageTopMarking: NSUZXYYTTE#*DAC0832LCN; PowerWise: N; High-Reliability: Y; DatasheetVersion: Mar-2002; PackageVersion: revG, Nov-1984; PackageReference: N20A; PackageDescription: Molded Dip (N) 20 Lead; RoHS: N; PinCount: 20; CompType: D/A Converter; Code_JEDEC: MS-001-AD; ComponentLink1Description: Manufacturer URL; ComponentLink1URL: http://www.national.com/; ComponentLink2Description: DAC0832 Datasheet; ComponentLink2URL: http://www.national.com/ds/DA/DAC0832.pdf; ComponentLink3Description: DAC0832 Web Page; ComponentLink3URL: http://www.national.com/pf/DA/DAC0832.html; ComponentLink4Description: N20A Package Page; ComponentLink4URL: http://www.national.com/packaging/folders/n20a.html
footprint N20A (DIP, 20-Leads, Row Spacing 7.62mm, Pitch 2.54mm, Body 26.07x6.6mm)
pins: 1 ~{CS} (in), 2 ~{WR1} (in), 3 GND (power), 4 DI3 (in), 5 DI2 (in), 6 DI1 (in), 7 DI0 (in), 8 VREF (power), 9 RFB, 10 GND (power), 11 IOUT1 (out), 12 IOUT2 (out), 13 DI7 (in), 14 DI6 (in), 15 DI5 (in), 16 DI4 (in), 17 ~{XFER} (in), 18 ~{WR2} (in), 19 ILE(BYTE1/~{BYTE2}) (in), 20 VCC (power)

## DAC0832LCWM
designator U?
8-bit Microprocessor Compatible, Double-Buffered D/A Converter, 20-pin Wide SOIC; PartNumber: DAC0832LCWM; Manufacturer: National Semiconductor; PackageTopMarking: NSUZXYTTE#*DAC0832*LCWM; PowerWise: N; High-Reliability: Y; DatasheetVersion: Mar-2002; PackageVersion: revG, Jan-1996; PackageReference: M20B; PackageDescription: Molded Package, S0, .300in Wide, 20 Lead; RoHS: N; PinCount: 20; CompType: D/A Converter; Code_JEDEC: MS-013-AC; Code_IPC: SOIC127P1030-20; ComponentLink1Description: Manufacturer URL; ComponentLink1URL: http://www.national.com/; ComponentLink2Description: DAC0832 Datasheet; ComponentLink2URL: http://www.national.com/ds/DA/DAC0832.pdf; ComponentLink3Description: DAC0832 Web Page; ComponentLink3URL: http://www.national.com/pf/DA/DAC0832.html; ComponentLink4Description: M20B Package Page; ComponentLink4URL: http://www.national.com/packaging/folders/m20b.html
footprint M20B_N (SOIC, 20-Leads, Body 12.8x7.5mm, Pitch 1.27mm, IPC Medium Density)
footprint M20B_L (SOIC, 20-Leads, Body 12.8x7.5mm, Pitch 1.27mm, IPC High Density)
footprint M20B_M (SOIC, 20-Leads, Body 12.8x7.5mm, Pitch 1.27mm, IPC Low Density)
pins: 1 ~{CS} (in), 2 ~{WR1} (in), 3 GND (power), 4 DI3 (in), 5 DI2 (in), 6 DI1 (in), 7 DI0 (in), 8 VREF (power), 9 RFB, 10 GND (power), 11 IOUT1 (out), 12 IOUT2 (out), 13 DI7 (in), 14 DI6 (in), 15 DI5 (in), 16 DI4 (in), 17 ~{XFER} (in), 18 ~{WR2} (in), 19 ILE(BYTE1/~{BYTE2}) (in), 20 VCC (power)

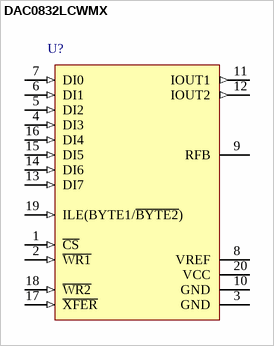
[diagram p4: symbol DAC0832LCWMX]

## DAC0832LCWMX
designator U?
8-bit Microprocessor Compatible, Double-Buffered D/A Converter, 20-pin Wide SOIC; PartNumber: DAC0832LCWMX; Manufacturer: National Semiconductor; PackageTopMarking: NSUZXYTTE#*DAC0832*LCWM; PowerWise: N; High-Reliability: Y; DatasheetVersion: Mar-2002; PackageVersion: revG, Jan-1996; PackageReference: M20B; PackageDescription: Molded Package, S0, .300in Wide, 20 Lead; RoHS: N; PinCount: 20; CompType: D/A Converter; Code_JEDEC: MS-013-AC; Code_IPC: SOIC127P1030-20; ComponentLink1Description: Manufacturer URL; ComponentLink1URL: http://www.national.com/; ComponentLink2Description: DAC0832 Datasheet; ComponentLink2URL: http://www.national.com/ds/DA/DAC0832.pdf; ComponentLink3Description: DAC0832 Web Page; ComponentLink3URL: http://www.national.com/pf/DA/DAC0832.html; ComponentLink4Description: M20B Package Page; ComponentLink4URL: http://www.national.com/packaging/folders/m20b.html
footprint M20B_N (SOIC, 20-Leads, Body 12.8x7.5mm, Pitch 1.27mm, IPC Medium Density)
footprint M20B_L (SOIC, 20-Leads, Body 12.8x7.5mm, Pitch 1.27mm, IPC High Density)
footprint M20B_M (SOIC, 20-Leads, Body 12.8x7.5mm, Pitch 1.27mm, IPC Low Density)
pins: 1 ~{CS} (in), 2 ~{WR1} (in), 3 GND (power), 4 DI3 (in), 5 DI2 (in), 6 DI1 (in), 7 DI0 (in), 8 VREF (power), 9 RFB, 10 GND (power), 11 IOUT1 (out), 12 IOUT2 (out), 13 DI7 (in), 14 DI6 (in), 15 DI5 (in), 16 DI4 (in), 17 ~{XFER} (in), 18 ~{WR2} (in), 19 ILE(BYTE1/~{BYTE2}) (in), 20 VCC (power)